# EAGLE library part UDA1320ATS (library micro-philips)
Stereo filter D/A CONVERTER
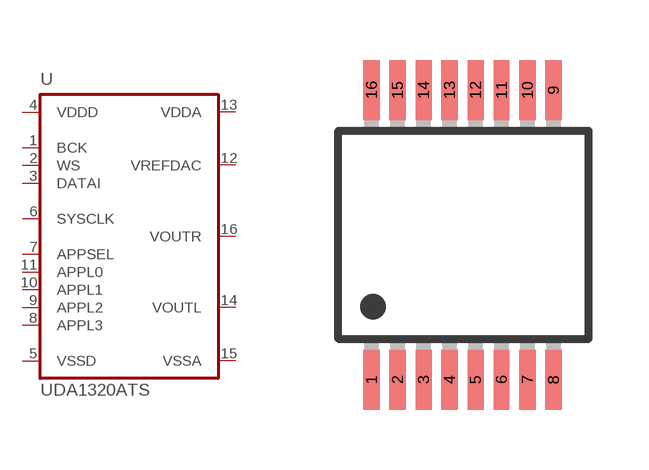
[diagram p9: symbol with the pads of SSOP16; footprint SSOP16]

Designator prefix U

## UDA1320ATS  [SSOP16]
1  BCK  in
2  WS  in
3  DATAI  in
4  VDDD  pwr
5  VSSD  pwr
6  SYSCLK  in
7  APPSEL  in
8  APPL3  in
9  APPL2  in
10  APPL1  in
11  APPL0  in
12  VREFDAC  in
13  VDDA  pwr
14  VOUTL  out
15  VSSA  pwr
16  VOUTR  out

## Footprint SSOP16 (pad centres in mm)
Shrink Small Outline Package package type SS
smd 0.4 x 1.5: 1 -2.275,-3.625; 2 -1.625,-3.625; 3 -0.975,-3.625; 4 -0.325,-3.625; 5 0.325,-3.625; 6 0.975,-3.625; 7 1.625,-3.625; 8 2.275,-3.625; 9 2.275,3.625; 10 1.625,3.625; 11 0.975,3.625; 12 0.325,3.625; 13 -0.325,3.625; 14 -0.975,3.625; 15 -1.625,3.625; 16 -2.275,3.625